# Altium integrated library Photocoupler.IntLib: 8 symbols
Pins are listed as number, name and electrical type; pins without a type are passive.

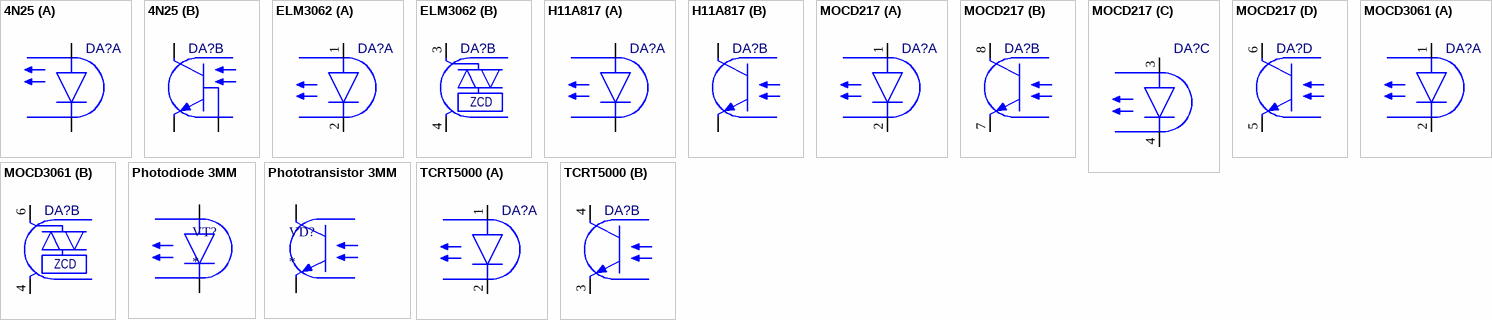
[diagram p0: symbols 4N25 to TCRT5000]

## 4N25
designator DA?  (value not drawn)
Value: 4N25; ComponentDescription: =Comment
footprint SMDIP6
part A pins: 1 A, 2 K
part B pins: 4 E, 5 C, 6 B

## ELM3062
designator DA?  (value not drawn)
Value: ELM3062; ComponentDescription: =Comment
footprint SOP-4
part A pins: 1 A, 2 K
part B pins: 3 A1, 4 A2
part B text: ZCD

## H11A817
designator DA?  (value not drawn)
Value: H11A817; ComponentDescription: =Comment
footprint H11A
part A pins: 1 A, 2 K
part B pins: 3 E, 4 C

## MOCD217
designator DA?  (value not drawn)
Value: MOCD217; ComponentDescription: =Comment
footprint SOIC127P600X175-8N (SOIC, 8-Leads, Body 4,90x3,90mm, Pitch 1,27mm, IPC Medium Density)
part A pins: 1 A, 2 K
part B pins: 7 E, 8 C
part C pins: 3 A, 4 K
part D pins: 5 E, 6 C

## MOCD3061
designator DA?  (value not drawn)
Value: MOCD3061; ComponentDescription: =Comment
footprint SMDIP6
part A pins: 1 A, 2 K
part B pins: 4 E, 6 C
part B text: ZCD

## Photodiode 3MM
designator VT?
ComponentDescription: =Comment; Value: *
footprint 3MM SMD
pins: 1 K, 2 A

## Phototransistor 3MM
designator VD?
ComponentDescription: =Comment; Value: *
footprint 3MM SMD
pins: 1 E, 2 C

## TCRT5000
designator DA?  (value not drawn)
Value: TCRT5000; ComponentDescription: =Comment
footprint TCRT5000
part A pins: 1 A, 2 K
part B pins: 3 E, 4 C